# Altium schematic symbol library DEA202450BT-1294C1-H.SchLib: 1 symbol
Pins are listed as number, name and electrical type; pins without a type are passive.

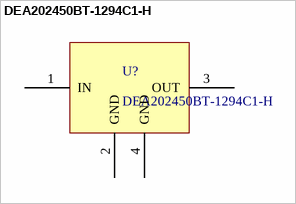
[diagram p0: symbol DEA202450BT-1294C1-H]

## DEA202450BT-1294C1-H
designator U?
footprint DEA202450BT-1294C1-H_LAYOUT
pins: 1 IN, 2 GND, 3 OUT, 4 GND